# Altium schematic symbol library MPX_____.SchLib: 1 symbol
Pins are listed as number, name and electrical type; pins without a type are passive.

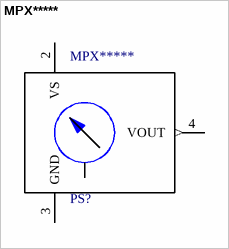
[diagram p0: symbol MPX*****]

## MPX*****
designator PS?
Low-Side Gate Driver IC Inverting, Non-Inverting 6-MLP (2x2); MP: MPX; MF: ON Semiconductor; Package: SOT-223-4 Texas Instruments; Availability: Bad; Check_prices: https://www.snapeda.com/parts/MPX/ON%20Semiconductor/view-part/121742/?ref=eda; SnapEDA_Link: https://www.snapeda.com/parts/MPX/ON%20Semiconductor/view-part/121742/?ref=snap; Price: None; Value: *
footprint *1317
pins: 1 NC@1, 2 VS (power), 3 GND (power), 4 VOUT (out), 5 NC@5, 6 NC@6